# EAGLE library part MAX1771 (library PowerIC)
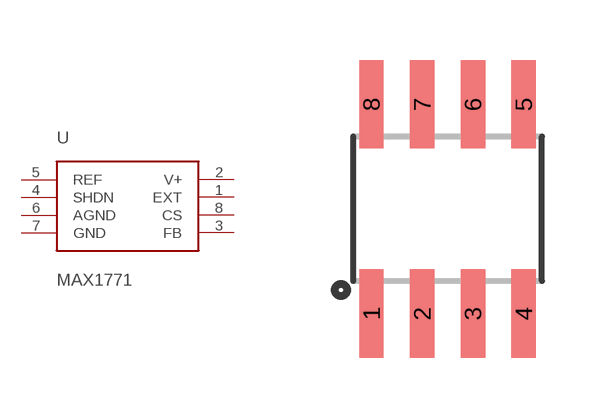
[diagram p1: symbol with the pads of SOIC8; footprint SOIC8]

Designator prefix U

## MAX1771-SOIC8  [SOIC8]
1  EXT
2  V+
3  FB
4  SHDN
5  REF
6  AGND
7  GND
8  CS

## Footprint SOIC8 (pad centres in mm)
SOIC 8-Lead
smd 0.61 x 2.21: 1 -1.905,-2.616; 2 -0.635,-2.616; 3 0.635,-2.616; 4 1.905,-2.616; 5 1.905,2.616; 6 0.635,2.616; 7 -0.635,2.616; 8 -1.905,2.616